# Altium footprint library L_1008_2520.PcbLib: 1 footprints
Each footprint in its own frame and in the unit in brackets; x right, y up, seen from the top. Pads: shape width x height; smd on the part's side, far side on the other; paste and mask are expansions set on the pad; w line width, h text height; cw(c..) or ccw(c..) is an arc to the next point about the centre after c.
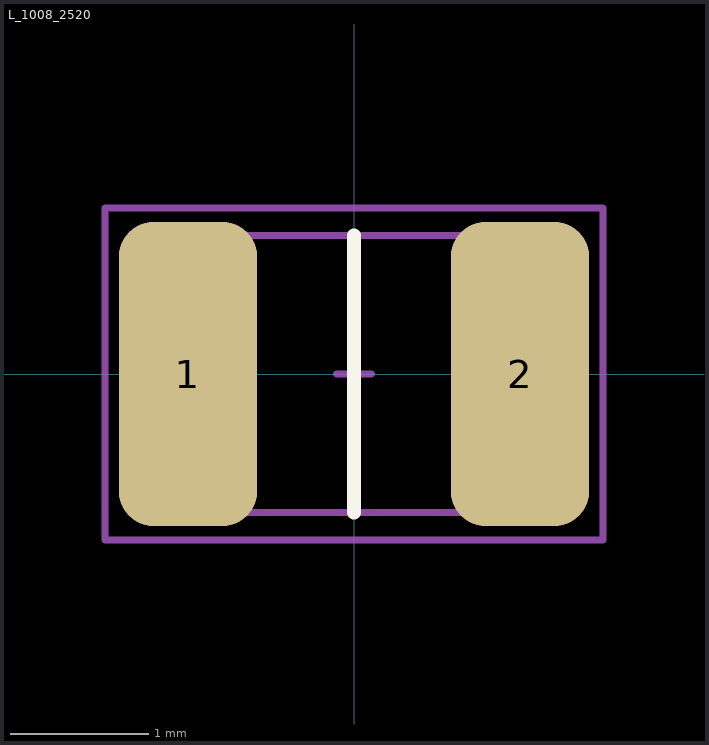
[diagram p0: the footprint, top view; thin cyan lines are the x and y axes]

## L_1008_2520 [mm]
pads (2):
  rrect50% 1x2.2 smd mask+0.05: 1(-1.2,0) 2(1.2,0)
Top Overlay:
  lines w0.1: 0,-1 0,1
Assembly Top:
  lines w0.05: -1.25,-1 1.25,-1 1.25,1 -1.25,1 -1.25,-1
Courtyard Top:
  lines w0.05: -1.8,-1.2 1.8,-1.2 1.8,1.2 -1.8,1.2 -1.8,-1.2
  lines w0.051: -0.127,0 0.127,0 ; 0,-0.127 0,0.127
3D body "AIML-1008HC-1R0M-T.STEP": height 1, standoff 0, extent -1.25,-1 1.25,1